# Altium footprint library PCB - POTENTIOMETER - POT BOURNS PTL45-15xx.PCBLIB: 1 footprints
Each footprint in its own frame and in the unit in brackets; x right, y up, seen from the top. Pads: shape width x height; smd on the part's side, far side on the other; paste and mask are expansions set on the pad; w line width, h text height; cw(c..) or ccw(c..) is an arc to the next point about the centre after c.
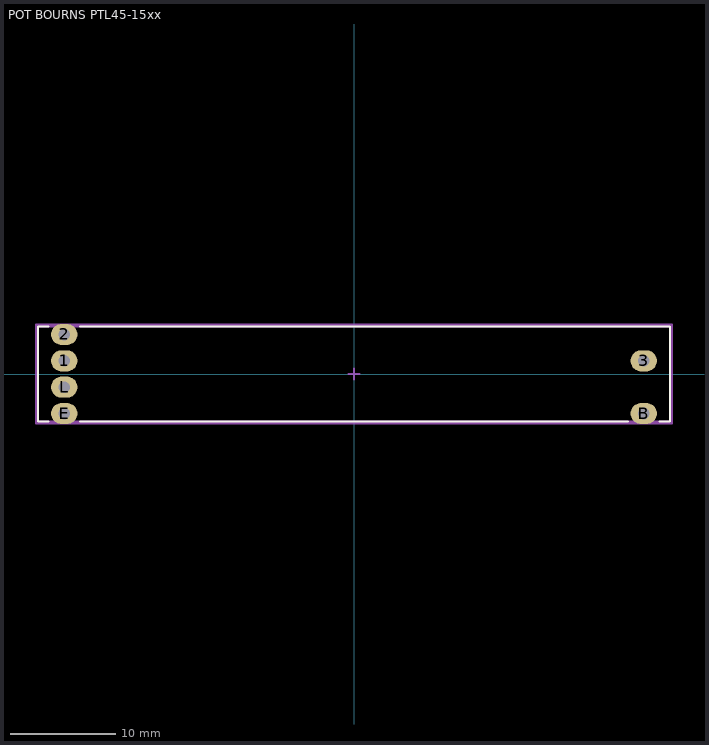
[diagram p0: the footprint, top view; thin cyan lines are the x and y axes]

## POT BOURNS PTL45-15xx [mm]
height 22
pads (6):
  oval 2.5x2 hole 1.1 unplated: 1(-27.5,1.25) 2(-27.5,3.75) 3(27.5,1.25) B(27.5,-3.75) E(-27.5,-3.75) L(-27.5,-1.25)
Top Overlay:
  lines w0.2: -29,-4.5 -30,-4.5 -30,4.5 -29,4.5 ; -26,-4.5 26,-4.5 ; -26,4.5 30,4.5 30,-4.5 29,-4.5
Mechanical 13:
  lines w0.2: -30,-4.5 30,-4.5 30,4.5 -30,4.5 -30,-4.5
Mechanical 15:
  lines w0.2: -0.5,0 0.5,0 ; 0,-0.5 0,0.5 ; -30.2,-4.7 30.2,-4.7 30.2,4.7 -30.2,4.7 -30.2,-4.7
3D body "bourns ptl45-15xx-xxxxx.step": height 21.95, standoff -3.5, extent -30,-4.5 30,4.5